# Altium footprint library mitsubishi-semiconductor.PCBLIB: 2 footprints
Each footprint in its own frame and in the unit in brackets; x right, y up, seen from the top. Pads: shape width x height; smd on the part's side, far side on the other; paste and mask are expansions set on the pad; w line width, h text height; cw(c..) or ccw(c..) is an arc to the next point about the centre after c.
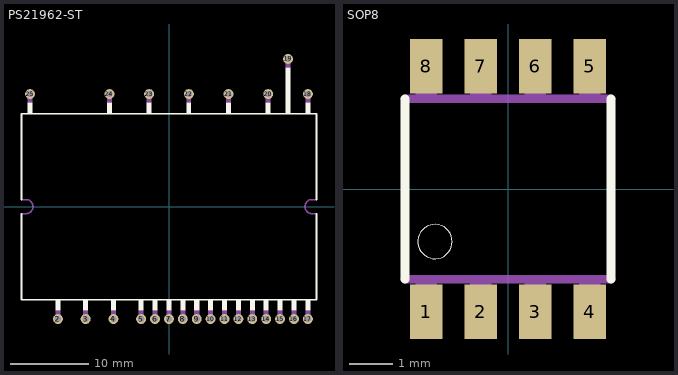
[diagram p0: the footprints below, top view; thin cyan lines are the x and y axes]

## PS21962-ST [mil]
pads (24):
  round 50 hole 31.5: 2(-560,-566.93) 3(-420,-566.93) 4(-280,-566.93) 5(-140.32,-566.93) 6(-70.32,-566.93) 7(-0.32,-566.93) 8(69.69,-566.93) 9(139.69,-566.93) 10(209.69,-566.93) 11(279.69,-566.93) 12(349.69,-566.93) 13(419.69,-566.93) 14(489.69,-566.93) 15(559.69,-566.93) 16(629.69,-566.93) 17(699.69,-566.93) 18(700,566.93) 19(600,744.09) 20(500,566.93) 21(300,566.93) 22(100,566.93) 23(-100,566.93) 24(-300,566.93) 25(-700,566.93)
Top Overlay:
  rectangle: -712.6,470.47 -687.99,524.61
  rectangle: -312.6,470.47 -287.99,524.61
  rectangle: -112.6,470.47 -87.99,524.61
  rectangle: 87.4,470.47 112.01,524.61
  rectangle: 287.4,470.47 312.01,524.61
  rectangle: 487.4,470.47 512.01,524.61
  rectangle: 587.4,470.47 612.01,700
  rectangle: 687.4,470.47 712.01,524.61
  region: 712.6,-470.47 687.01,-470.47 687.01,-524.61 712.6,-524.61
  region: 642.6,-470.47 617.01,-470.47 617.01,-524.61 642.6,-524.61
  region: 572.6,-470.47 547.01,-470.47 547.01,-524.61 572.6,-524.61
  region: 502.6,-470.47 477.01,-470.47 477.01,-524.61 502.6,-524.61
  region: 432.6,-470.47 407.01,-470.47 407.01,-524.61 432.6,-524.61
  region: 362.6,-470.47 337.01,-470.47 337.01,-524.61 362.6,-524.61
  region: 292.6,-470.47 267.01,-470.47 267.01,-524.61 292.6,-524.61
  region: 222.6,-470.47 197.01,-470.47 197.01,-524.61 222.6,-524.61
  region: 152.6,-470.47 127.01,-470.47 127.01,-524.61 152.6,-524.61
  region: 82.6,-470.47 57.01,-470.47 57.01,-524.61 82.6,-524.61
  region: 12.6,-470.47 -12.99,-470.47 -12.99,-524.61 12.6,-524.61
  region: -57.4,-470.47 -82.99,-470.47 -82.99,-524.61 -57.4,-524.61
  region: -127.4,-470.47 -152.99,-470.47 -152.99,-524.61 -127.4,-524.61
  region: -267.4,-470.47 -292.99,-470.47 -292.99,-524.61 -267.4,-524.61
  region: -407.4,-470.47 -432.99,-470.47 -432.99,-524.61 -407.4,-524.61
  region: -547.4,-470.47 -572.99,-470.47 -572.99,-524.61 -547.4,-524.61
  lines w8: -743.11,-35.43 -743.11,-468.5 743.11,-468.5 743.11,-35.43 ; -743.11,35.43 -743.11,468.5 743.11,468.5 743.11,35.43
Mechanical 16:
  rectangle: -712.6,524.61 -687.99,573.82
  rectangle: -312.6,524.61 -287.99,573.82
  rectangle: -112.6,524.61 -87.99,573.82
  rectangle: 87.4,524.61 112.01,573.82
  rectangle: 287.4,524.61 312.01,573.82
  rectangle: 487.4,524.61 512.01,573.82
  rectangle: 587.4,699.61 612.01,753.94
  rectangle: 687.4,524.61 712.01,573.82
  region: 712.6,-524.61 687.01,-524.61 687.01,-573.82 712.6,-573.82
  region: 642.6,-524.61 617.01,-524.61 617.01,-573.82 642.6,-573.82
  region: 572.6,-524.61 547.01,-524.61 547.01,-573.82 572.6,-573.82
  region: 502.6,-524.61 477.01,-524.61 477.01,-573.82 502.6,-573.82
  region: 432.6,-524.61 407.01,-524.61 407.01,-573.82 432.6,-573.82
  region: 362.6,-524.61 337.01,-524.61 337.01,-573.82 362.6,-573.82
  region: 292.6,-524.61 267.01,-524.61 267.01,-573.82 292.6,-573.82
  region: 222.6,-524.61 197.01,-524.61 197.01,-573.82 222.6,-573.82
  region: 152.6,-524.61 127.01,-524.61 127.01,-573.82 152.6,-573.82
  region: 82.6,-524.61 57.01,-524.61 57.01,-573.82 82.6,-573.82
  region: 12.6,-524.61 -12.99,-524.61 -12.99,-573.82 12.6,-573.82
  region: -57.4,-524.61 -82.99,-524.61 -82.99,-573.82 -57.4,-573.82
  region: -127.4,-524.61 -152.99,-524.61 -152.99,-573.82 -127.4,-573.82
  region: -267.4,-524.61 -292.99,-524.61 -292.99,-573.82 -267.4,-573.82
  region: -407.4,-524.61 -432.99,-524.61 -432.99,-573.82 -407.4,-573.82
  region: -547.4,-524.61 -572.99,-524.61 -572.99,-573.82 -547.4,-573.82
  lines w8: -743.11,-35.43 -720.47,-35.43 ccw(c-720.47,0) -720.47,35.43 -743.11,35.43 ; 743.11,-35.43 720.47,-35.43 cw(c720.47,0) 720.47,35.43 743.11,35.43

## SOP8 [mil]
pads (8):
  rect 29.92x50 smd: 1(-75,-112.6) 2(-25,-112.6) 3(25,-112.6) 4(75,-112.6) 5(75,112.6) 6(25,112.6) 7(-25,112.6) 8(-75,112.6)
Top Overlay:
  circle w0: c-66.93,-48.23 r15.75
  lines w8: -94.49,-82.68 -94.49,-61.02 -94.49,82.68 ; 94.49,-82.68 94.49,-61.02 94.49,82.68
Mechanical 16:
  rectangle: -84.65,-122.05 -65.35,-81.69
  rectangle: -34.65,-122.05 -15.35,-86.61
  rectangle: 15.35,-122.05 34.65,-86.61
  rectangle: 65.35,-122.05 84.65,-86.61
  rectangle: 65.35,86.61 84.65,122.05
  rectangle: 15.35,86.61 34.65,122.05
  rectangle: -34.65,86.61 -15.35,122.05
  rectangle: -84.65,86.61 -65.35,122.05
  lines w8: -94.49,-82.68 94.49,-82.68 ; -94.49,82.68 94.49,82.68